# Altium footprint library V2_con_molex_6_52207-0633.PcbLib: 1 footprints
Each footprint in its own frame and in the unit in brackets; x right, y up, seen from the top. Pads: shape width x height; smd on the part's side, far side on the other; paste and mask are expansions set on the pad; w line width, h text height; cw(c..) or ccw(c..) is an arc to the next point about the centre after c.
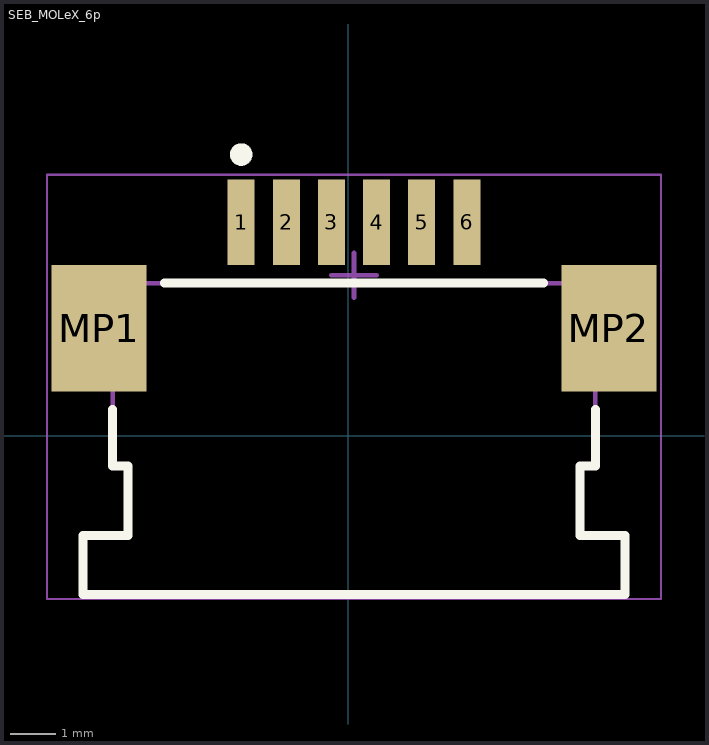
[diagram p0: the footprint, top view; thin cyan lines are the x and y axes]

## SEB_MOLeX_6p [mm] "52207-0633"
pads (8):
  rect 0.6x1.9 smd: 1(-2.373,4.731) 2(-1.373,4.731) 3(-0.373,4.731) 4(0.627,4.731) 5(1.627,4.731) 6(2.627,4.731)
  rect 2.1x2.8 smd: MP1(-5.523,2.381) MP2(5.777,2.381)
Top Overlay:
  circle w0.25: c-2.373,6.231 r0.125
  lines w0.2: -5.223,0.581 -5.223,-0.669 -4.886,-0.669 -4.885,-2.209 -5.873,-2.209 -5.873,-3.519 6.127,-3.519 6.127,-2.209 5.139,-2.209 5.139,-0.669 5.477,-0.669 5.477,0.581 ; -4.073,3.381 4.327,3.381
Mechanical 13:
  lines w0.1: -6.023,1.381 -5.223,1.381 -5.223,-0.669 -4.885,-0.669 -4.885,-2.209 -5.873,-2.209 -5.873,-3.519 6.127,-3.519 6.127,-2.209 5.139,-2.209 5.139,-0.669 5.477,-0.669 5.477,1.381 6.277,1.381 6.277,3.381 -6.023,3.381 -6.023,1.381
Mechanical 15:
  lines w0.05: -6.673,-3.619 -6.673,5.781 6.927,5.781 6.927,-3.619 -6.673,-3.619
  lines w0.1: -0.373,3.556 0.627,3.556 ; 0.127,3.056 0.127,4.056
3D body "522070633.stp": height 2.71, standoff 0.01, extent -6.023,-3.465 6.277,5.435